# EAGLE library part LPS25H (library sensors)
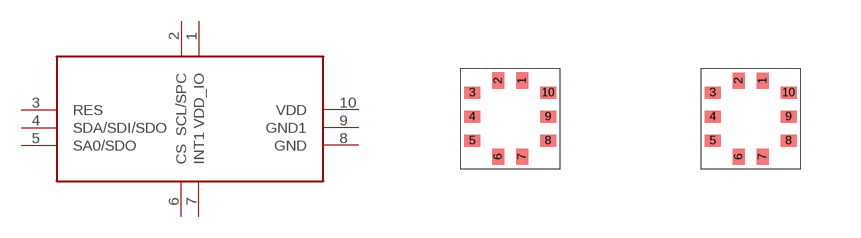
[diagram p2: symbol with the pads of LPS25H_PADS; footprints LPS25H_PADS, LPS25H]

Designator prefix LPS25_PADS

## LPS25HLPS25H_PADS, LPS25HLPS25H_PADSLPS25H_PADS  [LPS25H_PADS]
1  VDD_IO
2  SCL/SPC
3  RES
4  SDA/SDI/SDO
5  SA0/SDO
6  CS
7  INT1
8  GND
9  GND1
10  VDD

## LPS25HLPS25H  [LPS25H]
Pads as for LPS25H_PADS

## LPS25H  [LPS25H_PADS]
Pads as for LPS25H_PADS

## Footprint LPS25H_PADS (pad centres in mm)
smd 0.3 x 0.4: 1 0.28,0.93; 2 -0.32,0.93; 6 -0.32,-0.97; 7 0.28,-0.97
smd 0.4 x 0.3: 3 -0.97,0.63; 4 -0.97,0.03; 5 -0.97,-0.57; 8 0.93,-0.57; 9 0.93,0.03; 10 0.93,0.63

## Footprint LPS25H (pad centres in mm)
smd 0.3 x 0.4: 1 0.35,0.9; 2 -0.25,0.9; 6 -0.25,-1; 7 0.35,-1
smd 0.4 x 0.3: 3 -0.9,0.6; 4 -0.9,0; 5 -0.9,-0.6; 8 1,-0.6; 9 1,0; 10 1,0.6